# Altium footprint library pasives.PcbLib: 4 footprints
Each footprint in its own frame and in the unit in brackets; x right, y up, seen from the top. Pads: shape width x height; smd on the part's side, far side on the other; paste and mask are expansions set on the pad; w line width, h text height; cw(c..) or ccw(c..) is an arc to the next point about the centre after c.
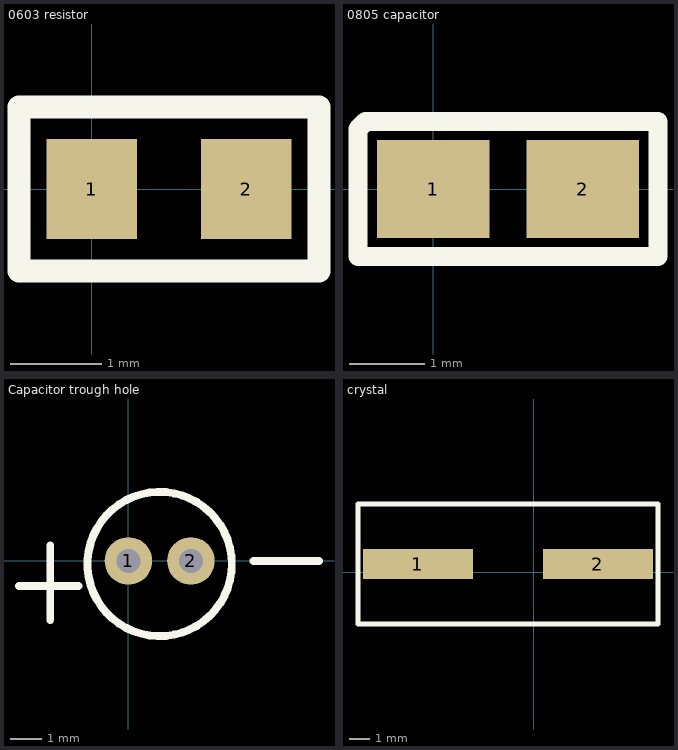
[diagram p0: the footprints below, top view; thin cyan lines are the x and y axes]

## 0603 resistor [mm]
pads (2):
  rect 1x1.1 smd: 1(0,0) 2(1.7,0)
Top Overlay:
  lines w0.254: -0.8,-0.9 -0.8,0.9 2.5,0.9 2.5,-0.9 -0.8,-0.9
3D body "User Library-0603(1608M) Res.x_t": height 0.79, standoff 0, extent -0.2,-0.394 1.8,0.394

## 0805 capacitor [mm]
pads (2):
  rect 1.5x1.3 smd: 1(0,0) 2(2,0)
Top Overlay:
  lines w0.254: -1,-0.9 -1,-0.5 -1,0.8 -0.9,0.9 3,0.9 3,-0.9 -1,-0.9
3D body "0805 SMD Capacitor.step": height 0.78, standoff 0, extent -0.1,-0.625 1.9,0.625

## Capacitor trough hole [mil]
pads (2):
  round 60 hole 30: 1(0,0) 2(78.74,0)
Top Overlay:
  circle w10: c39.37,-3.94 r90.89
  lines w10: -137.8,-31.5 -62.99,-31.5 ; -98.43,-74.8 -98.43,19.68 ; 157.48,0 240.16,0
3D body "CircuitWorks-CAPACITOR- PANASONIC M SERIES.step": height 433.07, standoff -196.85, extent -59.05,-102.36 137.8,94.49

## crystal [mm]
pads (2):
  rect 5.5x1.5 smd: 1(-5.8,0.4) 2(3.2,0.4)
Top Overlay:
  lines w0.254: -8.8,-2.6 6.2,-2.6 6.2,3.4 -8.8,3.4 -8.8,0.4 -8.8,-2.6
3D body "User Library-HC49US.STEP": height 4.2, standoff 0, extent -7.65,-1.9 5.05,2.8